# EAGLE library part TMP112AQDRLRQ1 (library TMP112AQDRLRQ1)
Automotive Grade, 1.4V-Capable +/-0.5C Temperature Sensor with Alert Function and I2C/SMBus Source: Datasheet <http://www.ti.com/lit/gpn/tmp112-q1>
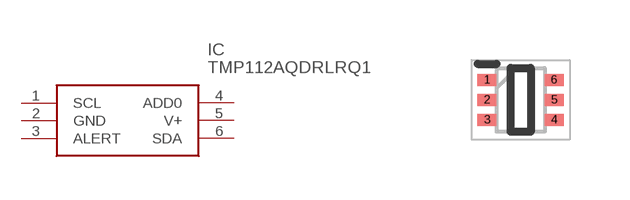
[diagram p0: symbol with the pads of SOTFL50P160X60-6N; footprint SOTFL50P160X60-6N]

Designator prefix IC

## TMP112AQDRLRQ1 (Description: Automotive Grade, 1.4V-Capable +/-0.5C Temperature Sensor with Alert Function and I2C/SMBus; Height: 0.6mm; Manufacturer_Name: Texas Instruments; Manufacturer_Part_Number: TMP112AQDRLRQ1; Mouser_Part_Number: 595-TMP112AQDRLRQ1; Mouser_Price-Stock: https://www.mouser.co.uk/ProductDetail/Texas-Instruments/TMP112AQDRLRQ1?qs=asCBFxFfL1Q5YmJCm%252BGnCQ%3D%3D)  [SOTFL50P160X60-6N]
1  SCL
2  GND
3  ALERT
4  ADD0
5  V+
6  SDA

## Footprint SOTFL50P160X60-6N (pad centres in mm)
SOT-5X3
smd 0.475 x 0.3: 1 -0.838,0.5; 2 -0.838,0; 3 -0.838,-0.5; 4 0.838,-0.5; 5 0.838,0; 6 0.838,0.5